# Altium footprint library SODFL3516X120N.PcbLib: 1 footprints
Each footprint in its own frame and in the unit in brackets; x right, y up, seen from the top. Pads: shape width x height; smd on the part's side, far side on the other; paste and mask are expansions set on the pad; w line width, h text height; cw(c..) or ccw(c..) is an arc to the next point about the centre after c.
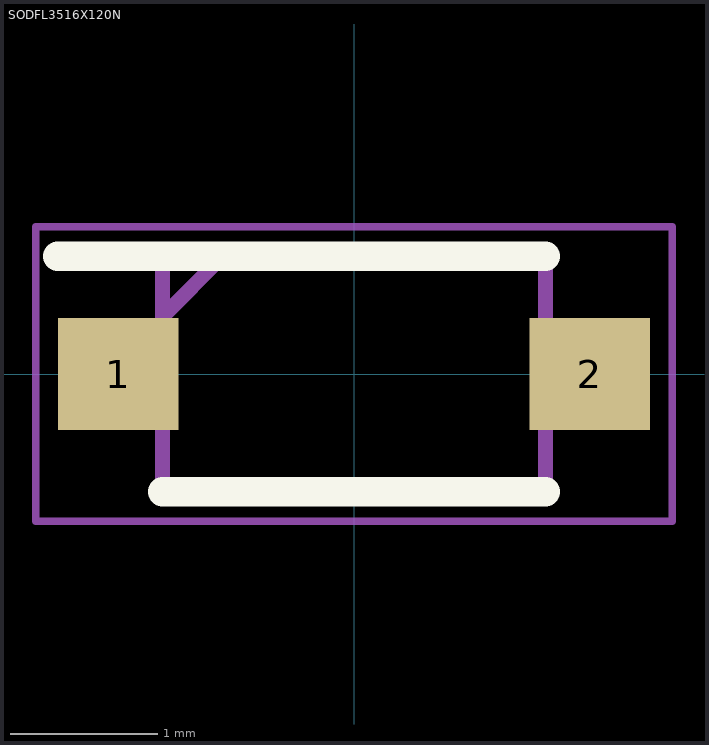
[diagram p0: the footprint, top view; thin cyan lines are the x and y axes]

## SODFL3516X120N [mm]
pads (2):
  rect 0.82x0.76 smd: 1(-1.6,0) 2(1.6,0)
Top Overlay:
  lines w0.2: -2.01,0.8 1.3,0.8 ; -1.3,-0.8 1.3,-0.8
Mechanical 15:
  lines w0.1: -1.3,0.39 -0.89,0.8 ; -1.3,-0.8 1.3,-0.8 1.3,0.8 -1.3,0.8 -1.3,-0.8
Mechanical 20:
  lines w0.05: -2.16,-1 2.16,-1 2.16,1 -2.16,1 -2.16,-1
3D body "BZT52H-A3V3-QX.stp": height 5.8, standoff -4.65, extent -10,-3.376 10,3.376